# Altium schematic symbol library Control_Board.SchLib: 6 symbols
Pins are listed as number, name and electrical type; pins without a type are passive.

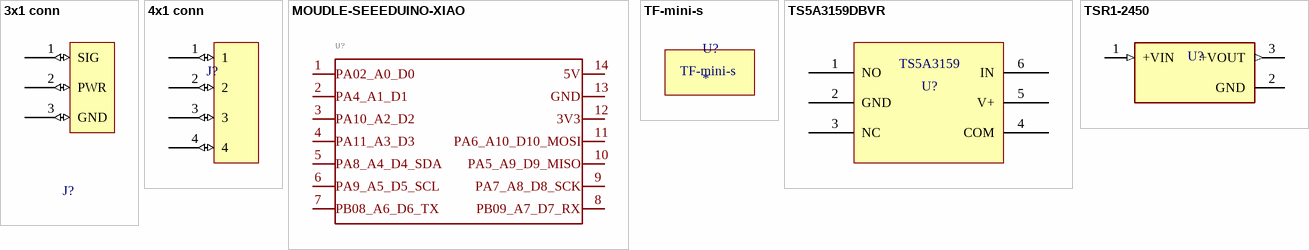
[diagram p0: symbols 3x1 conn to TSR1-2450]

## 3x1 conn
designator J?  (value not drawn)
Pinout for a servo connector
footprint 1x3 2.54MM
pins: 1 SIG (io), 2 PWR (io), 3 GND (io)

## 4x1 conn
designator J?  (value not drawn)
footprint 1x4 2.54mm
pins: 1 (io), 2 (io), 3 (io), 4 (io)

## MOUDLE-SEEEDUINO-XIAO
designator U?
GateName_1: G$1; SymbolName_1: MOUDLE-SEEEDUINO-XIAO; LibraryName: Seeeduino XIAO; DeviceSetName: MOUDLE-SEEEDUINO-XIAO; Package: MOUDLE14P-2.54-21X17.8MM
footprint MOUDLE14P-2-54-21X17-8MM
pins: 1 PA02_A0_D0 (io), 2 PA4_A1_D1 (io), 3 PA10_A2_D2 (io), 4 PA11_A3_D3 (io), 5 PA8_A4_D4_SDA (io), 6 PA9_A5_D5_SCL (io), 7 PB08_A6_D6_TX (io), 8 PB09_A7_D7_RX (io), 9 PA7_A8_D8_SCK (io), 10 PA5_A9_D9_MISO (io), 11 PA6_A10_D10_MOSI (io), 12 3V3 (io), 13 GND (io), 14 5V (io)

## TF-mini-s
designator U?
footprint TF-mini-s

## TS5A3159DBVR
designator U?  (value not drawn)
footprint SOT23-6
pins: 1 NO, 2 GND, 3 NC, 4 COM, 5 V+, 6 IN
text: TS5A3159

## TSR1-2450
designator U?  (value not drawn)
Non-Isolated PoL Module DC DC Converter 1 Output 5V 1A 7V - 36V Input; MF: Traco Power; MP: TSR 1-2450; Price: None; Package: SIP-3 Tracopower; Check_prices: https://www.snapeda.com/parts/TSR%201-2450/Traco%20Power/view-part/5846336/?ref=eda; Availability: Warning; Value: *; Purchase-URL: https://pricing.snapeda.com/search/part/TSR 1-2450/?ref=eda; SnapEDA_Link: https://www.snapeda.com/parts/TSR%201-2450/Traco%20Power/view-part/5846336/?ref=snap
footprint CONV_TSR1-2450
pins: 1 +VIN (in), 2 GND (power), 3 +VOUT (out)